# Altium footprint library 691382040004.PcbLib: 2 footprints
Each footprint in its own frame and in the unit in brackets; x right, y up, seen from the top. Pads: shape width x height; smd on the part's side, far side on the other; paste and mask are expansions set on the pad; w line width, h text height; cw(c..) or ccw(c..) is an arc to the next point about the centre after c.
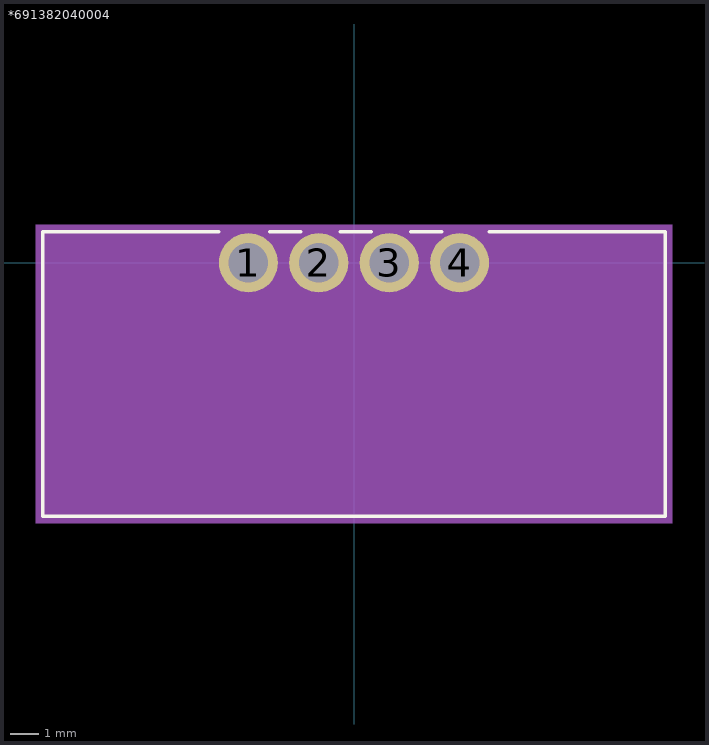
[diagram p0: the footprints below, top view; thin cyan lines are the x and y axes]

## *691382040004 [mm]
pads (4):
  round 2.1 hole 1.4: 1(-3.75,0) 2(-1.25,0) 3(1.25,0) 4(3.75,0)
Top Overlay:
  lines w0.127: -11.051,1.099 -11.05,1.1 ; -4.8,1.1 -11.05,1.1 ; -2.985,1.1 -1.885,1.1 -1.885,1.104 ; -0.485,1.1 0.615,1.1 ; 2.015,1.1 3.115,1.1 ; 4.8,1.1 11.05,1.1 11.05,-9 -11.05,-9 -11.05,1.1
Mechanical 4:
  lines w0.127: -11.05,1.1 11.05,1.1 -11.05,1.1
  text "1" at -4.25,-3 h1.88
  text "1" at -4.25,-3 h1.88
Mechanical 16:
  region: -11.3,1.35 11.3,1.35 11.3,-9.25 -11.3,-9.25

## PCBComponent_1 [mm]